# EAGLE library part BUTTON-LED (library 4ms-main-parts)
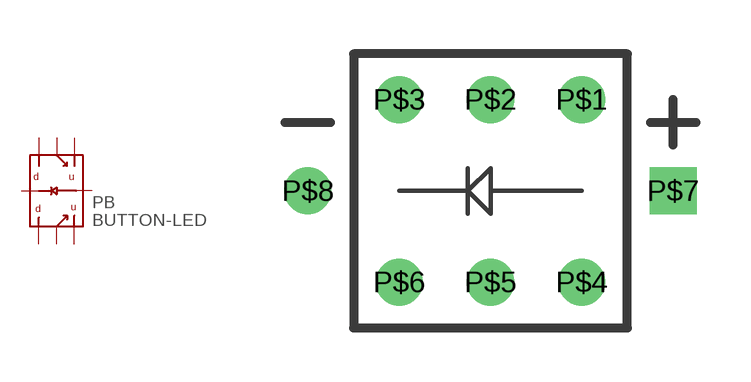
[diagram p12: symbol with the pads of BUTTON-LED-PB61303; footprint BUTTON-LED-PB61303]

Designator prefix PB

## BUTTON-LED  [BUTTON-LED-PB61303]
P$1  P$1
P$2  P$2
P$3  P$3
P$4  P$4
P$5  P$5
P$6  P$6
P$7  P$7
P$8  P$8

## Footprint BUTTON-LED-PB61303 (pad centres in mm)
drill 0.8: P$1 2.54,2.54; P$2 0,2.54; P$3 -2.54,2.54; P$4 2.54,-2.54; P$5 0,-2.54; P$6 -2.54,-2.54; P$8 -5.08,0
drill 0.8 square: P$7 5.08,0